# EAGLE library part IC-IRDA-RPM851A (library mylib)
RPM851A : ROHM IrDA(Ver.1.0) Module
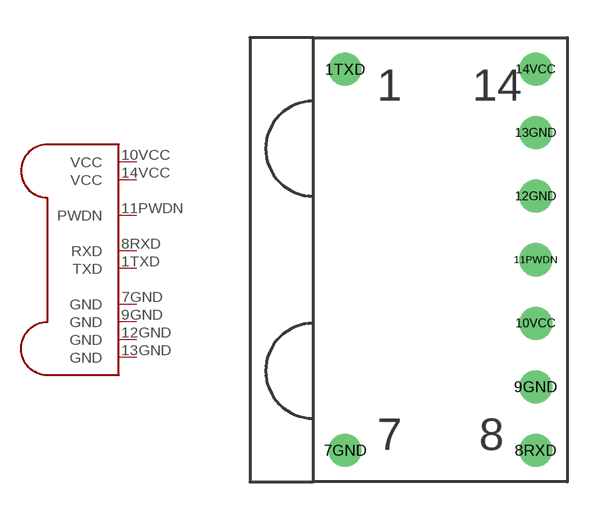
[diagram p22: symbol with the pads of IC-RPM851A; footprint IC-RPM851A]

Designator prefix -

## IC-IRDA-RPM851A  [IC-RPM851A]
1TXD  TXD
7GND  GND
8RXD  RXD
9GND  GND
10VCC  VCC
11PWDN  PWDN
12GND  GND
13GND  GND
14VCC  VCC

## Footprint IC-RPM851A (pad centres in mm)
drill 0.813: 1TXD -2.54,7.62; 7GND -2.54,-7.62; 8RXD 5.08,-7.62; 9GND 5.08,-5.08; 10VCC 5.08,-2.54; 11PWDN 5.08,0; 12GND 5.08,2.54; 13GND 5.08,5.08; 14VCC 5.08,7.62